# EAGLE library part LMV358 (library Hocki_Library)
Dual Low-Voltage Rail-to-Rail Output Operational Amplifier 2 Channel DigiKey <https://www.digikey.com/product-detail/en/texas-instruments/LMV358ID/296-39049-5-ND/1510583>
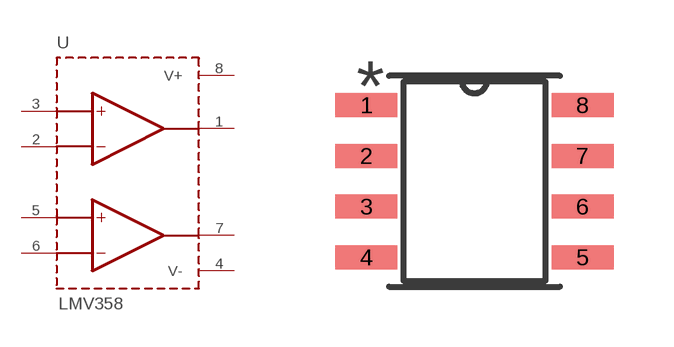
[diagram p10: symbol with the pads of 8-SOIC; footprint 8-SOIC]

Designator prefix U

## LMV358 (DKPN: 296-39049-5-ND)  [8-SOIC]
1  OUTA  pas
2  INA-  pas
3  INA+  pas
4  V-  pas
5  INB+  pas
6  INB-  pas
7  OUTB  pas
8  V+  pas

## Footprint 8-SOIC (pad centres in mm)
smd 1.55 x 0.6: 1 -2.7,1.905; 2 -2.7,0.635; 3 -2.7,-0.635; 4 -2.7,-1.905; 5 2.7,-1.905; 6 2.7,-0.635; 7 2.7,0.635; 8 2.7,1.905